# Altium footprint library CYPCBLIB.PcbLib: 184 footprints (part 10 of 12)
Each footprint in its own frame and in the unit in brackets; x right, y up, seen from the top. Pads: shape width x height; smd on the part's side, far side on the other; paste and mask are expansions set on the pad; w line width, h text height; cw(c..) or ccw(c..) is an arc to the next point about the centre after c.
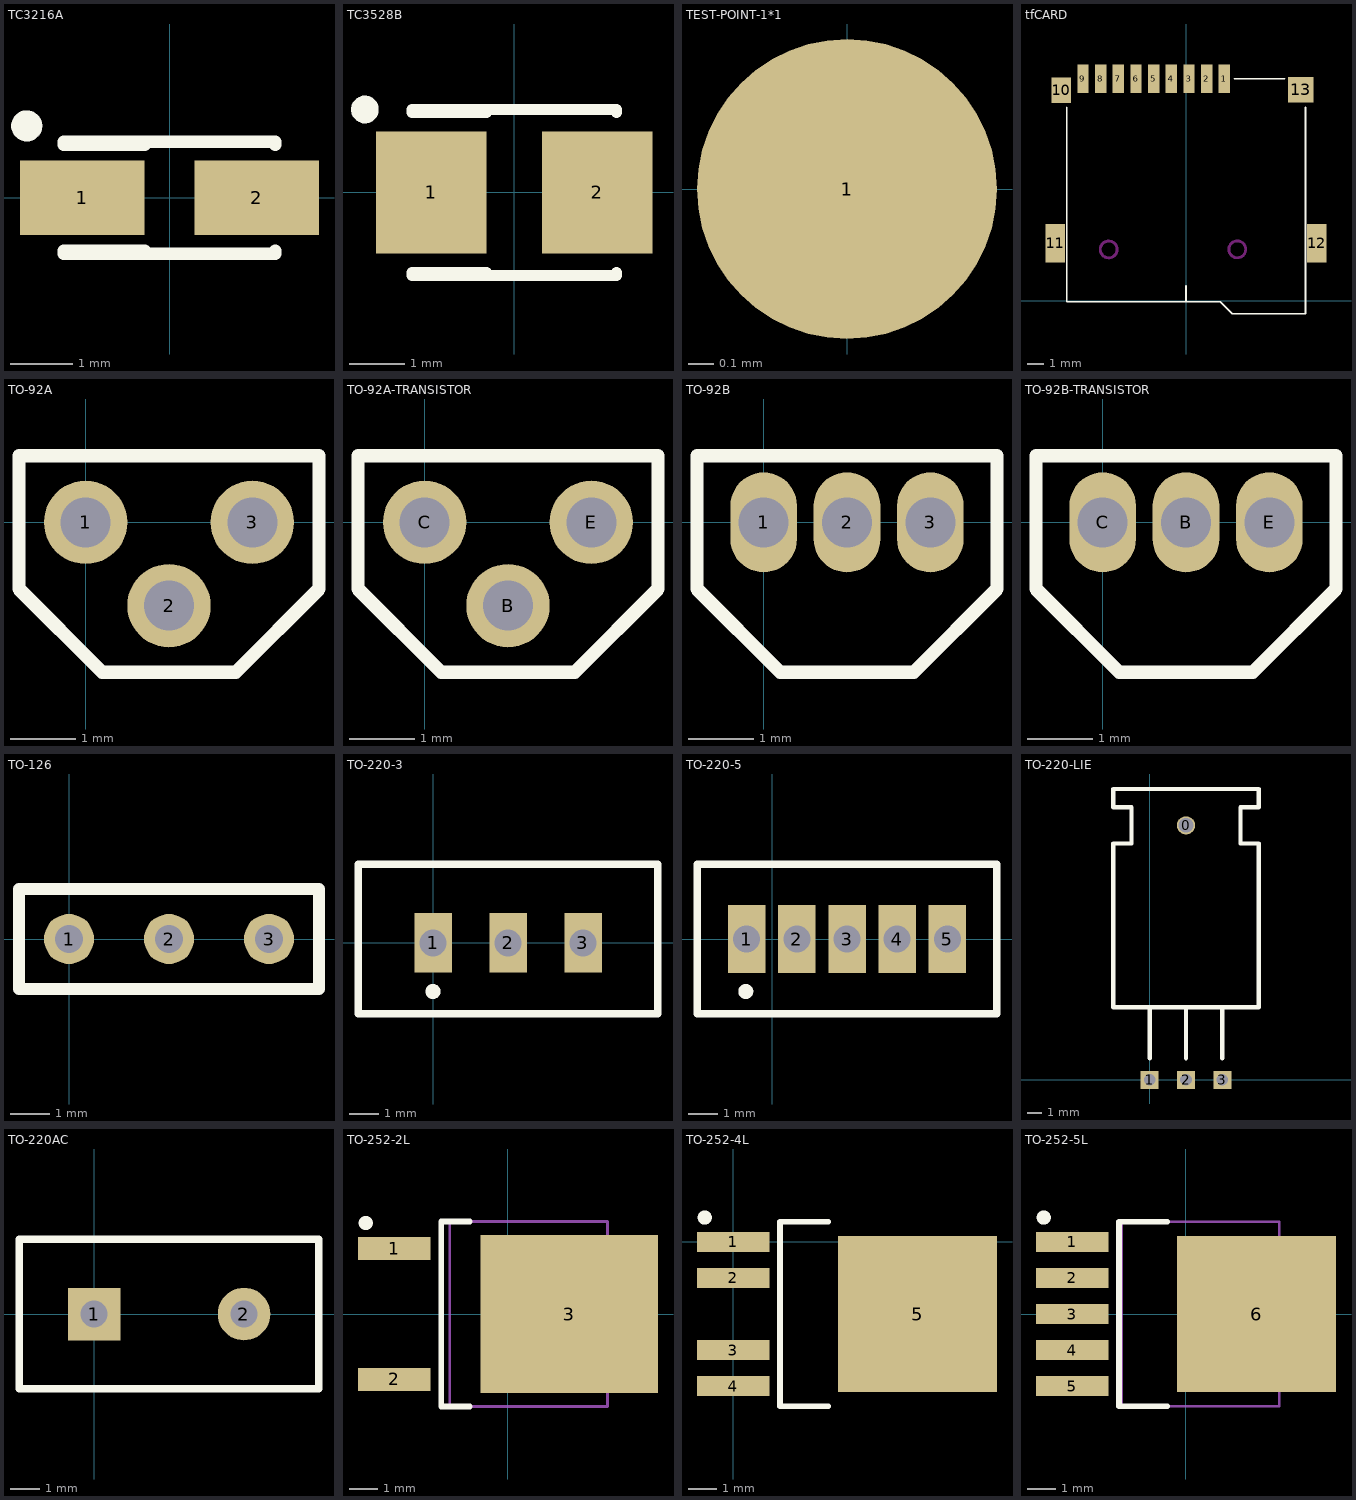
[diagram p9: the footprints below, top view; thin cyan lines are the x and y axes]

## TC3216A [mm]
pads (2):
  rect 2x1.2 smd: 1(-1.4,0) 2(1.4,0)
TopOverlay:
  circle w0.25: c-2.294,1.152 r0.125
  lines w0.2: -1.7,-0.9 1.7,-0.9 1.7,-0.85 ; -1.7,-0.85 -0.4,-0.85 ; -1.7,0.85 -0.4,0.85 ; -1.7,0.9 1.7,0.9 1.7,0.85

## TC3528B [mm]
pads (2):
  rect 2x2.2 smd: 1(-1.5,0) 2(1.5,0)
TopOverlay:
  circle w0.25: c-2.7,1.5 r0.125
  lines w0.2: -1.85,-1.5 1.85,-1.5 1.85,-1.45 ; -1.85,-1.45 -0.5,-1.45 ; -1.85,1.45 -0.5,1.45 ; -1.85,1.5 1.85,1.5 1.85,1.45

## TEST-POINT-1*1 [mm]
pads (1):
  round 1.2 smd: 1(0,0)

## tfCARD [mm]
pads (13):
  rect 0.7x1.8 smd: 1(2.375,13.804) 2(1.275,13.804) 3(0.175,13.804) 4(-0.925,13.804) 5(-2.025,13.804) 6(-3.125,13.804) 7(-4.225,13.804) 8(-5.325,13.804) 9(-6.425,13.804)
  rect 1.2x1.6 smd: 10(-7.774,13.089)
  rect 1.2x2.4 smd: 11(-8.15,3.575) 12(8.125,3.575)
  rect 1.6x1.6 smd: 13(7.135,13.114)
TopOverlay:
  lines w0.1: -7.425,12.036 -7.425,-0.071 2.115,-0.071 2.865,-0.821 3.925,-0.821 7.425,-0.821 7.425,12.036 ; 2.983,13.8 6.133,13.8
  lines w0.127: 0,0 0,0.889
KeepOutLayer:
  circle w0.178: c3.181,3.183 r0.525
  circle w0.178: c-4.825,3.179 r0.525

## TO-92A [mil]
pads (3):
  round 50 hole 30: 1(0,0) 2(50,-50) 3(100,0)
TopOverlay:
  lines w8: -40,-40 -40,40 140,40 140,-40 90,-90 10,-90 -40,-40

## TO-92A-TRANSISTOR [mil]
pads (3):
  round 50 hole 30: B(50,-50) C(0,0) E(100,0)
TopOverlay:
  lines w8: -40,-40 -40,40 140,40 140,-40 90,-90 10,-90 -40,-40

## TO-92B [mil]
pads (3):
  oval 40x60 hole 30: 1(0,0) 2(50,0) 3(100,0)
TopOverlay:
  lines w8: -40,-40 -40,40 140,40 140,-40 90,-90 10,-90 -40,-40

## TO-92B-TRANSISTOR [mil]
pads (3):
  oval 40x60 hole 30: B(50,0) C(0,0) E(100,0)
TopOverlay:
  lines w8: -40,-40 10,-90 90,-90 140,-40 140,40 -40,40 -40,-40

## TO-126 [mil]
pads (3):
  round 50 hole 28: 1(0,0) 2(100,0) 3(200,0)
TopOverlay:
  lines w12: -50,-50 250,-50 250,50 -50,50 -50,-50

## TO-220-3 [mil]
pads (3):
  rect 50x80 hole 36: 1(0,0) 2(100,0) 3(200,0)
TopOverlay:
  circle w10: c0,-65 r5
  lines w10: -100,-95 -100,105 300,105 300,-95 -100,-95

## TO-220-5 [mil]
pads (5):
  rect 50x90.55 hole 36: 1(-33.79,0) 2(33.14,0) 3(100.07,0) 4(167,0) 5(233.93,0)
TopOverlay:
  circle w10: c-35,-70 r5
  lines w10: -100,-100 300,-100 300,100 -100,100 -100,-100

## TO-220-LIE [mil]
pads (4):
  round 50 hole 40: 0(100,700)
  rect 50x50 hole 32: 1(0,0) 2(100,0) 3(200,0)
TopOverlay:
  lines w12: 0,60 0,200 ; 100,60 100,200 ; 200,60 200,200 ; -100,200 -100,650 -50,650 -50,750 -100,750 -100,800 300,800 300,750 250,750 250,650 300,650 300,200 -100,200

## TO-220AC [mil]
pads (2):
  rect 70x70 hole 36: 1(0,0)
  round 70 hole 36: 2(200,0)
TopOverlay:
  lines w10: -100,-100 -100,100 300,100 300,-100 -100,-100

## TO-252-2L [mm]
pads (3):
  rect 2.55x0.8 smd: 1(-4,2.3) 2(-4,-2.3)
  rect 6.25x5.55 smd: 3(2.15,0)
TopOverlay:
  circle w0.25: c-5,3.2 r0.125
  lines w0.2: -1.35,-3.25 -2.35,-3.25 -2.35,3.25 -1.35,3.25
Mechanical15:
  lines w0.1: 3.5,-2.668 3.946,-2.668 4.85,-1.666 4.85,1.666 3.946,2.668 3.5,2.668 ; -2.05,-3.25 3.5,-3.25 3.5,3.25 -2.05,3.25 -2.05,-3.25

## TO-252-4L [mm]
pads (5):
  rect 2.55x0.7 smd: 1(0,0) 2(0,-1.27) 3(0,-3.81) 4(0,-5.08)
  rect 5.6x5.5 smd: 5(6.5,-2.54)
TopOverlay:
  circle w0.25: c-1,0.86 r0.125
  lines w0.2: 3.35,-5.79 1.65,-5.79 1.65,0.71 3.35,0.71

## TO-252-5L [mm]
pads (6):
  rect 2.55x0.7 smd: 1(-4,2.54) 2(-4,1.27) 3(-4,0) 4(-4,-1.27) 5(-4,-2.54)
  rect 5.6x5.5 smd: 6(2.5,0)
TopOverlay:
  circle w0.25: c-5,3.4 r0.125
  lines w0.2: -0.65,-3.25 -2.35,-3.25 -2.35,3.25 -0.65,3.25
Mechanical15:
  lines w0.1: 3.3,-2.65 3.812,-2.65 4.85,-1.499 4.85,1.499 3.812,2.65 3.3,2.65 ; -2.25,-3.25 3.3,-3.25 3.3,3.25 -2.25,3.25 -2.25,-3.25